# Altium schematic symbol library RES 5m 1W.Schlib: 1 symbol
Pins are listed as number, name and electrical type; pins without a type are passive.

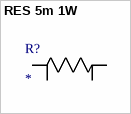
[diagram p0: symbol RES 5m 1W]

## RES 5m 1W
designator R?
RES SMD 0.005 OHM 1% 1W 1206
footprint 1206 - Current Sense
pins: 1, 2, S1, S2